# Altium footprint library SOT95P280X145-5N.PcbLib: 2 footprints
Each footprint in its own frame and in the unit in brackets; x right, y up, seen from the top. Pads: shape width x height; smd on the part's side, far side on the other; paste and mask are expansions set on the pad; w line width, h text height; cw(c..) or ccw(c..) is an arc to the next point about the centre after c.
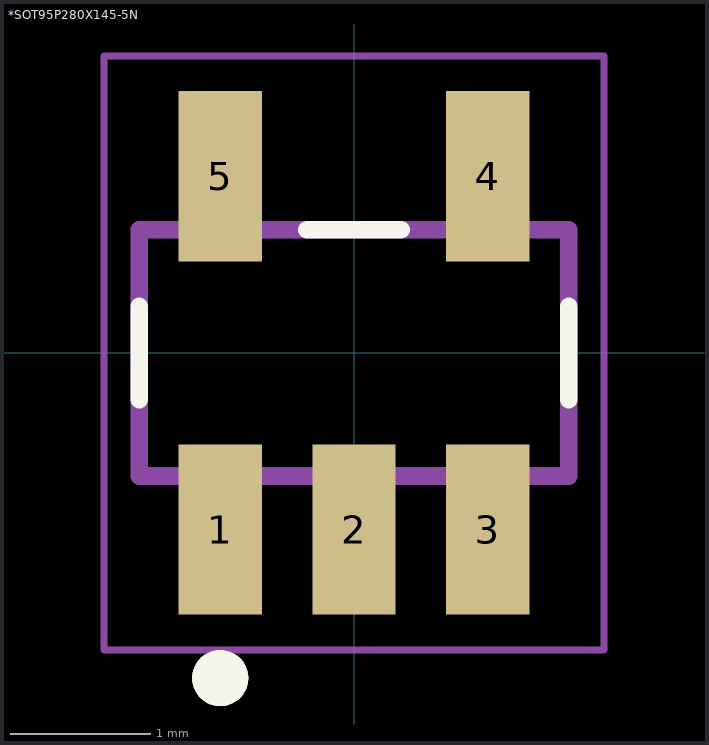
[diagram p0: the footprints below, top view; thin cyan lines are the x and y axes]

## *SOT95P280X145-5N [mm]
pads (5):
  rect 0.59x1.21 smd: 1(-0.95,-1.255) 2(0,-1.255) 3(0.95,-1.255) 4(0.95,1.255) 5(-0.95,1.255)
Top Overlay:
  circle w0.2: c-0.95,-2.31 r0.1
  lines w0.127: -1.525,-0.33 -1.525,0.33 ; -0.335,0.875 0.335,0.875 ; 1.525,-0.33 1.525,0.33
Mechanical 4:
  circle w0.2: c-0.95,-2.31 r0.1
  circle w0.2: c-0.95,-2.31 r0.1
  lines w0.127: -1.525,-0.875 -1.525,0.875 ; -1.525,-0.875 1.525,-0.875 ; -1.525,-0.875 -1.525,0.875 ; -1.525,-0.875 1.525,-0.875 ; -1.525,0.875 1.525,0.875 ; -1.525,0.875 1.525,0.875 ; 1.525,-0.875 1.525,0.875 ; 1.525,-0.875 1.525,0.875
Mechanical 16:
  lines w0.05: -1.775,-2.11 1.775,-2.11 1.775,2.11 -1.775,2.11 -1.775,-2.11
3D body "TPS73225DBVR--3DModel-STEP-56544.STEP": height 1.31, standoff -0.14, extent -1.45,-1.4 1.45,1.4

## PCBComponent_1 [mm]